# EAGLE library part MICRO_SD (library paparazzi)
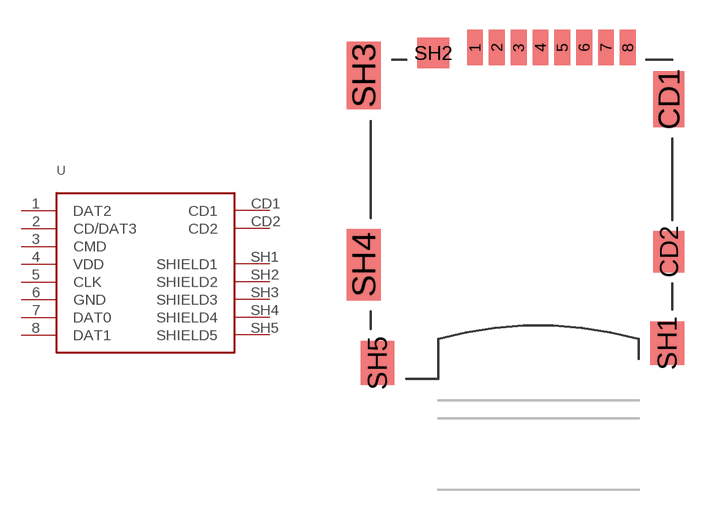
[diagram p56: symbol with the pads of SD-MOLEX-49225; footprint SD-MOLEX-49225]

Designator prefix -

## MICRO_SD  [SD-MOLEX-49225]
1  DAT2
2  CD/DAT3
3  CMD
4  VDD  pwr
5  CLK
6  GND  pwr
7  DAT0
8  DAT1
CD1  CD1  out
CD2  CD2  out
SH1  SHIELD1  pwr
SH2  SHIELD2  pwr
SH3  SHIELD3  pwr
SH4  SHIELD4  pwr
SH5  SHIELD5  pwr

## Footprint SD-MOLEX-49225 (pad centres in mm)
smd 0.8 x 1.8: 1 -10.54,16.7; 2 -9.44,16.7; 3 -8.34,16.7; 4 -7.24,16.7; 5 -6.14,16.7; 6 -5.04,16.7; 7 -3.94,16.7; 8 -2.84,16.7
smd 1.55 x 2.8: CD1 -0.775,14.1
smd 1.55 x 2.1: CD2 -0.775,6.4
smd 1.7 x 2.2: SH1 -0.85,1.8; SH5 -15.45,0.8
smd 1.6 x 1.55: SH2 -12.64,16.425
smd 1.7 x 3.4: SH3 -16.15,15.3
smd 1.7 x 3.6: SH4 -16.15,5.75